# EAGLE library part 96 (library display-lcd-lxd)
16x2 Dot-Matrix Digit, .30" (7.62) Multiplexed Display Additional Descriptors: none
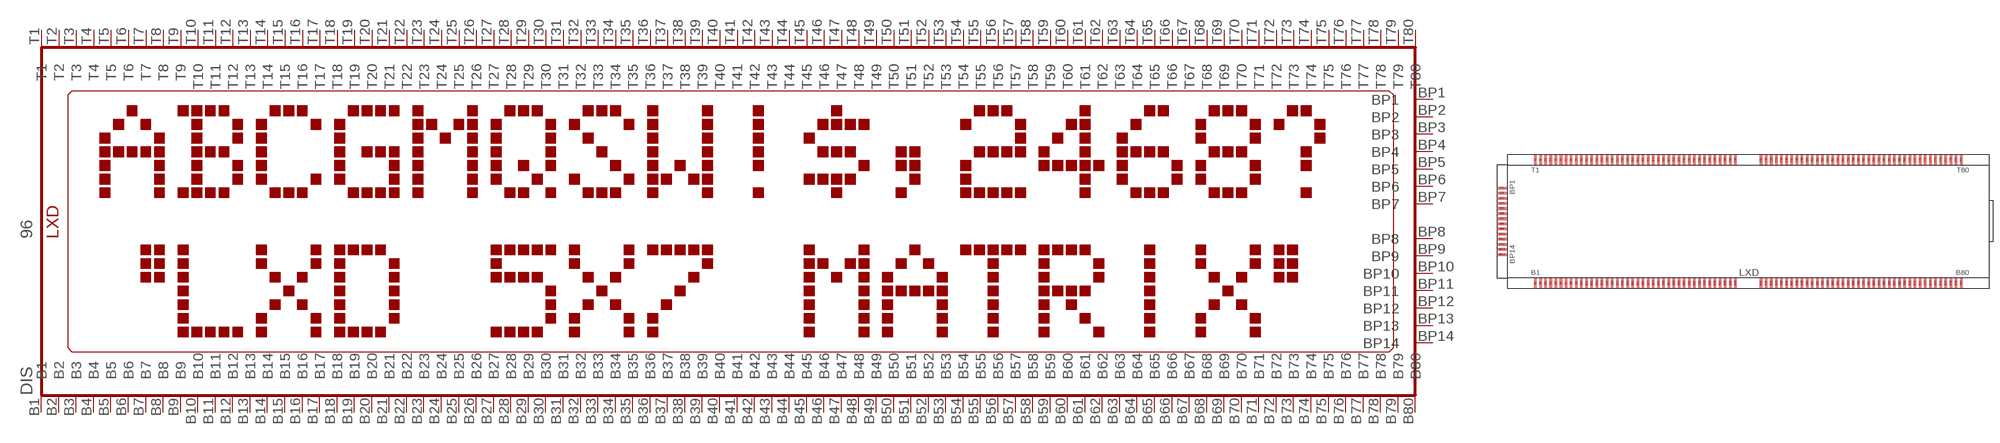
[diagram p39: symbol with the pads of 96-E; footprint 96-E]

Designator prefix DIS

## 96SMD  [96-E]
B1  B1  pas
B2  B2  pas
B3  B3  pas
B4  B4  pas
B5  B5  pas
B6  B6  pas
B7  B7  pas
B8  B8  pas
B9  B9  pas
B10  B10  pas
B11  B11  pas
B12  B12  pas
B13  B13  pas
B14  B14  pas
B15  B15  pas
B16  B16  pas
B17  B17  pas
B18  B18  pas
B19  B19  pas
B20  B20  pas
B21  B21  pas
B22  B22  pas
B23  B23  pas
B24  B24  pas
B25  B25  pas
B26  B26  pas
B27  B27  pas
B28  B28  pas
B29  B29  pas
B30  B30  pas
B31  B31  pas
B32  B32  pas
B33  B33  pas
B34  B34  pas
B35  B35  pas
B36  B36  pas
B37  B37  pas
B38  B38  pas
B39  B39  pas
B40  B40  pas
B41  B41  pas
B42  B42  pas
B43  B43  pas
B44  B44  pas
B45  B45  pas
B46  B46  pas
B47  B47  pas
B48  B48  pas
B49  B49  pas
B50  B50  pas
B51  B51  pas
B52  B52  pas
B53  B53  pas
B54  B54  pas
B55  B55  pas
B56  B56  pas
B57  B57  pas
B58  B58  pas
B59  B59  pas
B60  B60  pas
B61  B61  pas
B62  B62  pas
B63  B63  pas
B64  B64  pas
B65  B65  pas
B66  B66  pas
B67  B67  pas
B68  B68  pas
B69  B69  pas
B70  B70  pas
B71  B71  pas
B72  B72  pas
B73  B73  pas
B74  B74  pas
B75  B75  pas
B76  B76  pas
B77  B77  pas
B78  B78  pas
B79  B79  pas
B80  B80  pas
BP1  BP1  pas
BP2  BP2  pas
BP3  BP3  pas
BP4  BP4  pas
BP5  BP5  pas
BP6  BP6  pas
BP7  BP7  pas
BP8  BP8  pas
BP9  BP9  pas
BP10  BP10  pas
BP11  BP11  pas
BP12  BP12  pas
BP13  BP13  pas
BP14  BP14  pas
T1  T1  pas
T2  T2  pas
T3  T3  pas
T4  T4  pas
T5  T5  pas
T6  T6  pas
T7  T7  pas
T8  T8  pas
T9  T9  pas
T10  T10  pas
T11  T11  pas
T12  T12  pas
T13  T13  pas
T14  T14  pas
T15  T15  pas
T16  T16  pas
T17  T17  pas
T18  T18  pas
T19  T19  pas
T20  T20  pas
T21  T21  pas
T22  T22  pas
T23  T23  pas
T24  T24  pas
T25  T25  pas
T26  T26  pas
T27  T27  pas
T28  T28  pas
T29  T29  pas
T30  T30  pas
T31  T31  pas
T32  T32  pas
T33  T33  pas
T34  T34  pas
T35  T35  pas
T36  T36  pas
T37  T37  pas
T38  T38  pas
T39  T39  pas
T40  T40  pas
T41  T41  pas
T42  T42  pas
T43  T43  pas
T44  T44  pas
T45  T45  pas
T46  T46  pas
T47  T47  pas
T48  T48  pas
T49  T49  pas
T50  T50  pas
T51  T51  pas
T52  T52  pas
T53  T53  pas
T54  T54  pas
T55  T55  pas
T56  T56  pas
T57  T57  pas
T58  T58  pas
T59  T59  pas
T60  T60  pas
T61  T61  pas
T62  T62  pas
T63  T63  pas
T64  T64  pas
T65  T65  pas
T66  T66  pas
T67  T67  pas
T68  T68  pas
T69  T69  pas
T70  T70  pas
T71  T71  pas
T72  T72  pas
T73  T73  pas
T74  T74  pas
T75  T75  pas
T76  T76  pas
T77  T77  pas
T78  T78  pas
T79  T79  pas
T80  T80  pas

## Footprint 96-E (pad centres in mm)
Glass Size: 4.80" x 1.30" &nbsp &nbsp &nbsp &nbsp &nbsp &nbsp &nbsp &nbsp &nbsp (121.92 x 33.02)
smd 0.61 x 2.438: B1 -52.705,-15.24; B2 -51.435,-15.24; B3 -50.165,-15.24; B4 -48.895,-15.24; B5 -47.625,-15.24; B6 -46.355,-15.24; B7 -45.085,-15.24; B8 -43.815,-15.24; B9 -42.545,-15.24; B10 -41.275,-15.24; B11 -40.005,-15.24; B12 -38.735,-15.24; B13 -37.465,-15.24; B14 -36.195,-15.24; B15 -34.925,-15.24; B16 -33.655,-15.24; B17 -32.385,-15.24; B18 -31.115,-15.24; B19 -29.845,-15.24; B20 -28.575,-15.24; B21 -27.305,-15.24; B22 -26.035,-15.24; B23 -24.765,-15.24; B24 -23.495,-15.24; B25 -22.225,-15.24; B26 -20.955,-15.24; B27 -19.685,-15.24; B28 -18.415,-15.24; B29 -17.145,-15.24; B30 -15.875,-15.24; B31 -14.605,-15.24; B32 -13.335,-15.24; B33 -12.065,-15.24; B34 -10.795,-15.24; B35 -9.525,-15.24; B36 -8.255,-15.24; B37 -6.985,-15.24; B38 -5.715,-15.24; B39 -4.445,-15.24; B40 -3.175,-15.24; B41 3.175,-15.24; B42 4.445,-15.24; B43 5.715,-15.24; B44 6.985,-15.24; B45 8.255,-15.24; B46 9.525,-15.24; B47 10.795,-15.24; B48 12.065,-15.24; B49 13.335,-15.24; B50 14.605,-15.24; B51 15.875,-15.24; B52 17.145,-15.24; B53 18.415,-15.24; B54 19.685,-15.24; B55 20.955,-15.24; B56 22.225,-15.24; B57 23.495,-15.24; B58 24.765,-15.24; B59 26.035,-15.24; B60 27.305,-15.24; B61 28.575,-15.24; B62 29.845,-15.24; B63 31.115,-15.24; B64 32.385,-15.24; B65 33.655,-15.24; B66 34.925,-15.24; B67 36.195,-15.24; B68 37.465,-15.24; B69 38.735,-15.24; B70 40.005,-15.24; B71 41.275,-15.24; B72 42.545,-15.24; B73 43.815,-15.24; B74 45.085,-15.24; B75 46.355,-15.24; B76 47.625,-15.24; B77 48.895,-15.24; B78 50.165,-15.24; B79 51.435,-15.24; B80 52.705,-15.24; T1 -52.705,15.24; T2 -51.435,15.24; T3 -50.165,15.24; T4 -48.895,15.24; T5 -47.625,15.24; T6 -46.355,15.24; T7 -45.085,15.24; T8 -43.815,15.24; T9 -42.545,15.24; T10 -41.275,15.24; T11 -40.005,15.24; T12 -38.735,15.24; T13 -37.465,15.24; T14 -36.195,15.24; T15 -34.925,15.24; T16 -33.655,15.24; T17 -32.385,15.24; T18 -31.115,15.24; T19 -29.845,15.24; T20 -28.575,15.24; T21 -27.305,15.24; T22 -26.035,15.24; T23 -24.765,15.24; T24 -23.495,15.24; T25 -22.225,15.24; T26 -20.955,15.24; T27 -19.685,15.24; T28 -18.415,15.24; T29 -17.145,15.24; T30 -15.875,15.24; T31 -14.605,15.24; T32 -13.335,15.24; T33 -12.065,15.24; T34 -10.795,15.24; T35 -9.525,15.24; T36 -8.255,15.24; T37 -6.985,15.24; T38 -5.715,15.24; T39 -4.445,15.24; T40 -3.175,15.24; T41 3.175,15.24; T42 4.445,15.24; T43 5.715,15.24; T44 6.985,15.24; T45 8.255,15.24; T46 9.525,15.24; T47 10.795,15.24; T48 12.065,15.24; T49 13.335,15.24; T50 14.605,15.24; T51 15.875,15.24; T52 17.145,15.24; T53 18.415,15.24; T54 19.685,15.24; T55 20.955,15.24; T56 22.225,15.24; T57 23.495,15.24; T58 24.765,15.24; T59 26.035,15.24; T60 27.305,15.24; T61 28.575,15.24; T62 29.845,15.24; T63 31.115,15.24; T64 32.385,15.24; T65 33.655,15.24; T66 34.925,15.24; T67 36.195,15.24; T68 37.465,15.24; T69 38.735,15.24; T70 40.005,15.24; T71 41.275,15.24; T72 42.545,15.24; T73 43.815,15.24; T74 45.085,15.24; T75 46.355,15.24; T76 47.625,15.24; T77 48.895,15.24; T78 50.165,15.24; T79 51.435,15.24; T80 52.705,15.24
smd 2.438 x 0.61: BP1 -60.96,8.255; BP2 -60.96,6.985; BP3 -60.96,5.715; BP4 -60.96,4.445; BP5 -60.96,3.175; BP6 -60.96,1.905; BP7 -60.96,0.635; BP8 -60.96,-0.635; BP9 -60.96,-1.905; BP10 -60.96,-3.175; BP11 -60.96,-4.445; BP12 -60.96,-5.715; BP13 -60.96,-6.985; BP14 -60.96,-8.255